# EAGLE library part 2TIERBLOCKX2 (library jet-lib)
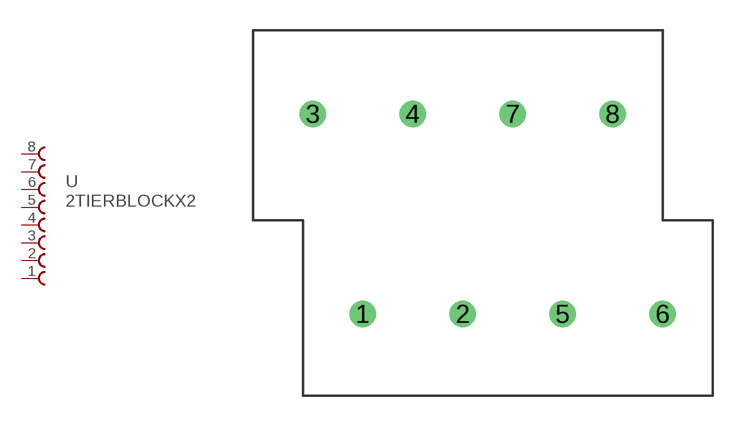
[diagram p1: symbol with the pads of 2TIERX2; footprint 2TIERX2]

Designator prefix -

## 2TIERBLOCKX2  [2TIERX2]
1  8  pas
2  7  pas
3  6  pas
4  5  pas
5  4  pas
6  3  pas
7  2  pas
8  1  pas

## Footprint 2TIERX2 (pad centres in mm)
drill 0.8: 1 0,0; 2 5,0; 3 -2.5,10; 4 2.5,10; 5 10,0; 6 15,0; 7 7.5,10; 8 12.5,10